# EAGLE library part DG441LE (library on-semiconductor)
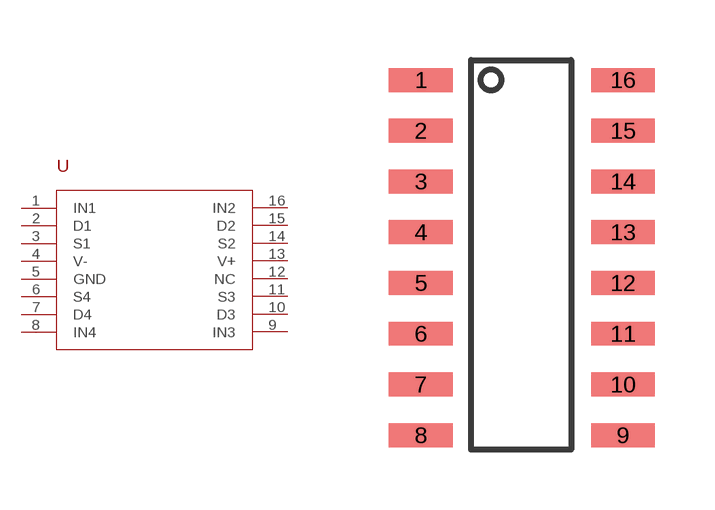
[diagram p12: symbol with the pads of DG441LE; footprint DG441LE]

Designator prefix U

## DG441LE  [DG441LE]
1  IN1
2  D1
3  S1
4  V-
5  GND
6  S4
7  D4
8  IN4
9  IN3
10  D3
11  S3
12  NC
13  V+
14  S2
15  D2
16  IN2

## Footprint DG441LE (pad centres in mm)
smd 1.6 x 0.6: 1 0,0; 2 0,-1.27; 3 0,-2.54; 4 0,-3.81; 5 0,-5.08; 6 0,-6.35; 7 0,-7.62; 8 0,-8.89; 9 5.05,-8.89; 10 5.05,-7.62; 11 5.05,-6.35; 12 5.05,-5.08; 13 5.05,-3.81; 14 5.05,-2.54; 15 5.05,-1.27; 16 5.05,0